# Altium schematic symbol library 散热片.SchLib: 3 symbols
Pins are listed as number, name and electrical type; pins without a type are passive.

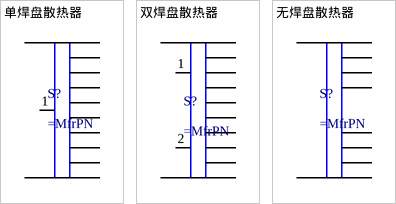
[diagram p0: symbols 单焊盘散热器 to 无焊盘散热器]

## 单焊盘散热器
designator S?
散热片
pins: 1

## 双焊盘散热器
designator S?
散热片
pins: 1, 2

## 无焊盘散热器
designator S?
散热片